# Altium footprint library 25SMTPOT.PcbLib: 1 footprints
Each footprint in its own frame and in the unit in brackets; x right, y up, seen from the top. Pads: shape width x height; smd on the part's side, far side on the other; paste and mask are expansions set on the pad; w line width, h text height; cw(c..) or ccw(c..) is an arc to the next point about the centre after c.
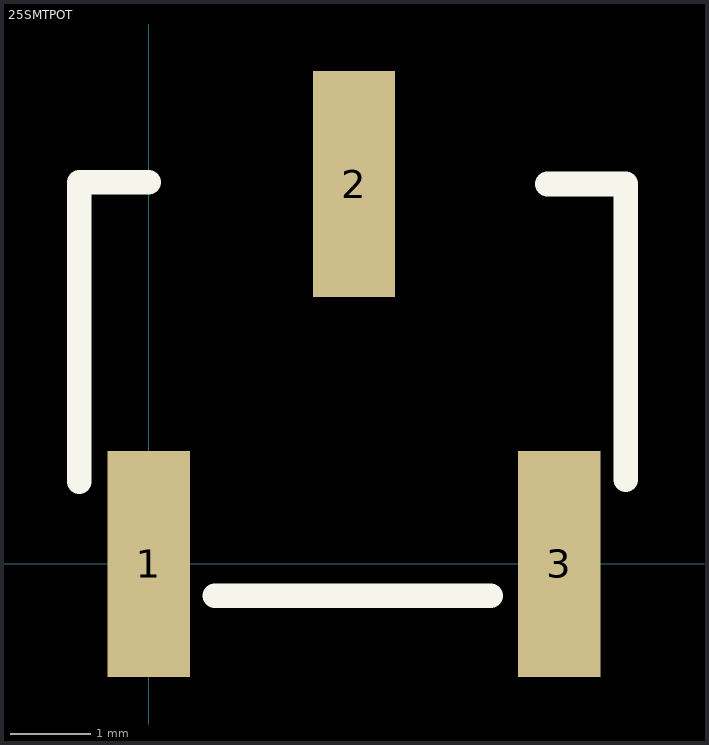
[diagram p0: the footprint, top view; thin cyan lines are the x and y axes]

## 25SMTPOT [mil]
height 50
pads (3):
  rect 40x110 smd: 1(0,0) 2(100,185) 3(200,0)
TopOverlay:
  lines w12: -33.92,40 -33.92,185.95 0,185.95 ; 32.17,-15.49 166.64,-15.49 ; 194.28,185.07 232.47,185.07 ; 232.47,41.12 232.47,183.75
Mechanical4:
  text ".040" at 0,0 h1
3D body: height 335, standoff 5, extent -26.02,-8.03 225.44,177.17